# EAGLE library part AD1939 (library Strutz Electronic Industries)
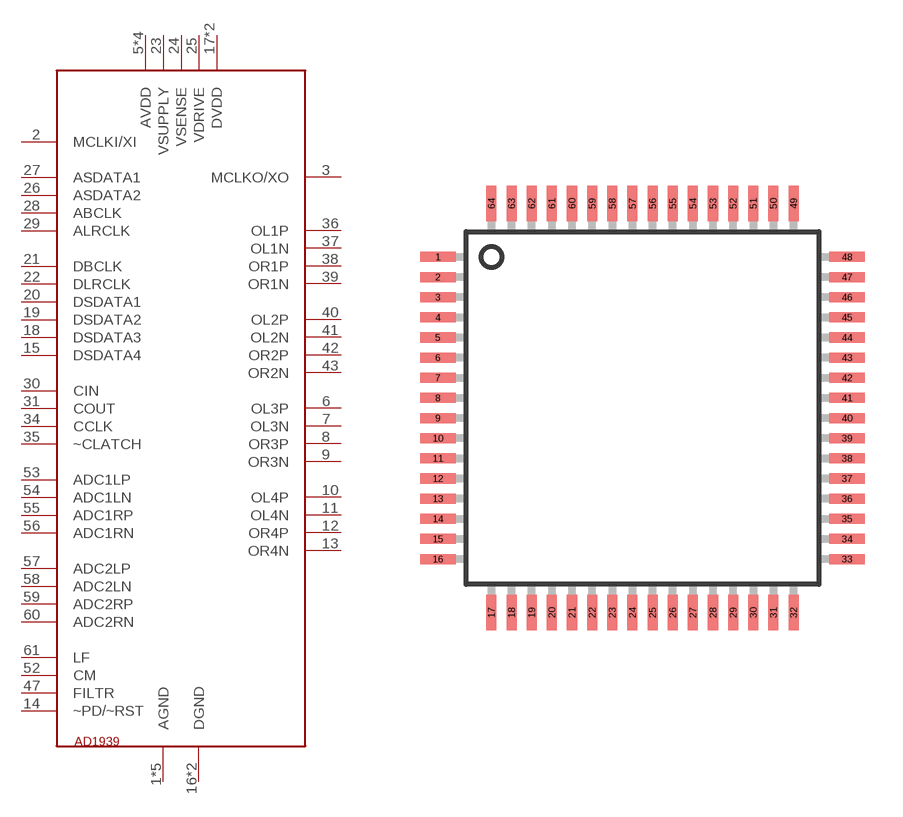
[diagram p17: symbol with the pads of QFP64; footprint QFP64]

Designator prefix -

## AD1939  [QFP64]
1  AGND
2  MCLKI/XI
3  MCLKO/XO
4  AGND
5  AVDD
6  OL3P
7  OL3N
8  OR3P
9  OR3N
10  OL4P
11  OL4N
12  OR4P
13  OR4N
14  ~PD/~RST
15  DSDATA4
16  DGND
17  DVDD
18  DSDATA3
19  DSDATA2
20  DSDATA1
21  DBCLK
22  DLRCLK
23  VSUPPLY
24  VSENSE
25  VDRIVE
26  ASDATA2
27  ASDATA1
28  ABCLK
29  ALRCLK
30  CIN
31  COUT
32  DVDD
33  DGND
34  CCLK
35  ~CLATCH
36  OL1P
37  OL1N
38  OR1P
39  OR1N
40  OL2P
41  OL2N
42  OR2P
43  OR2N
44  AGND
45  AVDD
46  AGND
47  FILTR
48  AGND
51  AVDD
52  CM
53  ADC1LP
54  ADC1LN
55  ADC1RP
56  ADC1RN
57  ADC2LP
58  ADC2LN
59  ADC2RP
60  ADC2RN
61  LF
62  AVDD

## Footprint QFP64 (pad centres in mm)
smd 1.4 x 0.4: 1 -8.125,6; 2 -8.125,5.2; 3 -8.125,4.4; 4 -8.125,3.6; 5 -8.125,2.8; 6 -8.125,2; 7 -8.125,1.2; 8 -8.125,0.4; 9 -8.125,-0.4; 10 -8.125,-1.2; 11 -8.125,-2; 12 -8.125,-2.8; 13 -8.125,-3.6; 14 -8.125,-4.4; 15 -8.125,-5.2; 16 -8.125,-6; 33 8.125,-6; 34 8.125,-5.2; 35 8.125,-4.4; 36 8.125,-3.6; 37 8.125,-2.8; 38 8.125,-2; 39 8.125,-1.2; 40 8.125,-0.4; 41 8.125,0.4; 42 8.125,1.2; 43 8.125,2; 44 8.125,2.8; 45 8.125,3.6; 46 8.125,4.4; 47 8.125,5.2; 48 8.125,6
smd 0.4 x 1.4: 17 -6,-8.125; 18 -5.2,-8.125; 19 -4.4,-8.125; 20 -3.6,-8.125; 21 -2.8,-8.125; 22 -2,-8.125; 23 -1.2,-8.125; 24 -0.4,-8.125; 25 0.4,-8.125; 26 1.2,-8.125; 27 2,-8.125; 28 2.8,-8.125; 29 3.6,-8.125; 30 4.4,-8.125; 31 5.2,-8.125; 32 6,-8.125; 49 6,8.125; 50 5.2,8.125; 51 4.4,8.125; 52 3.6,8.125; 53 2.8,8.125; 54 2,8.125; 55 1.2,8.125; 56 0.4,8.125; 57 -0.4,8.125; 58 -1.2,8.125; 59 -2,8.125; 60 -2.8,8.125; 61 -3.6,8.125; 62 -4.4,8.125; 63 -5.2,8.125; 64 -6,8.125